# Altium footprint library MISC.PcbLib: 7 footprints
Each footprint in its own frame and in the unit in brackets; x right, y up, seen from the top. Pads: shape width x height; smd on the part's side, far side on the other; paste and mask are expansions set on the pad; w line width, h text height; cw(c..) or ccw(c..) is an arc to the next point about the centre after c.
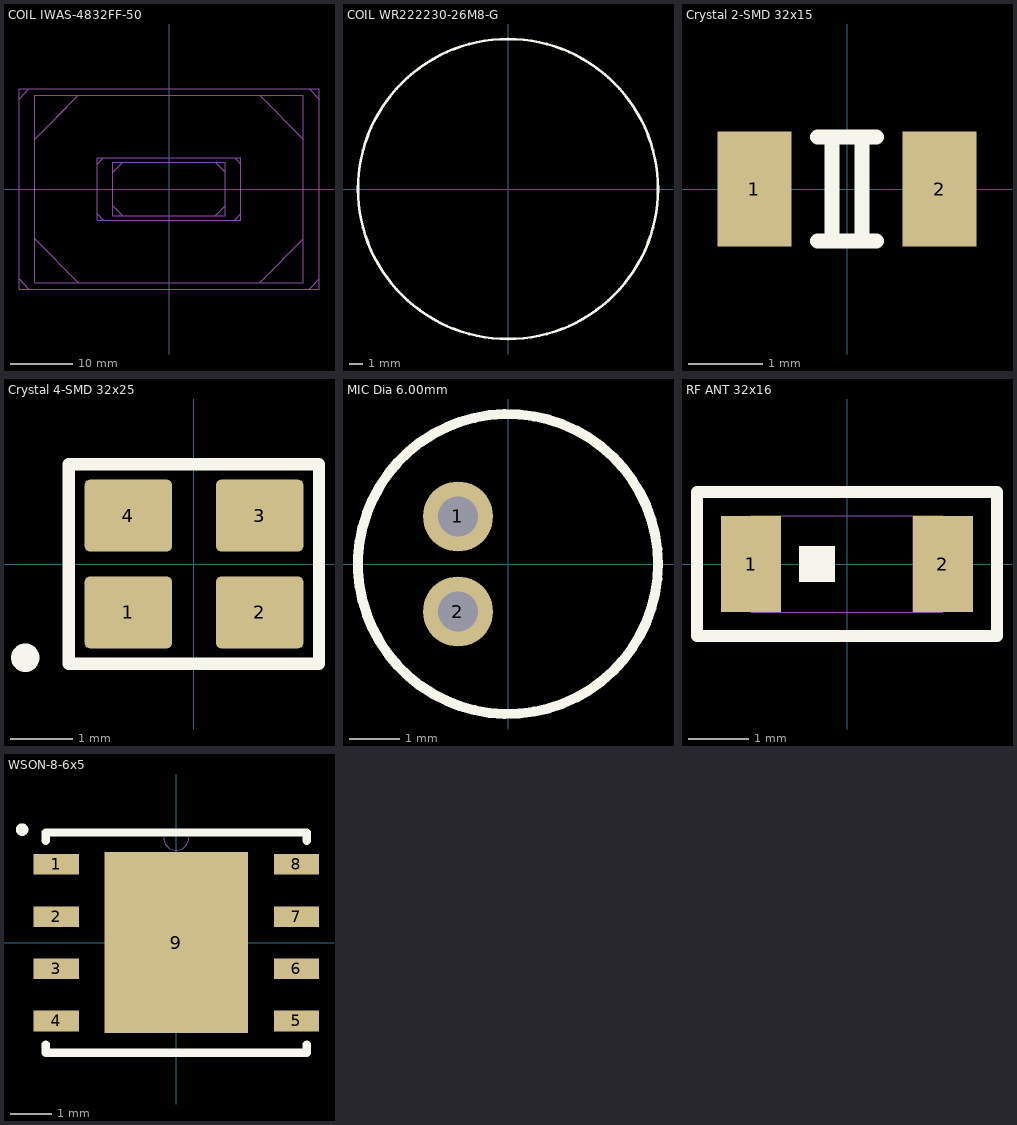
[diagram p0: the footprints below, top view; thin cyan lines are the x and y axes]

## COIL IWAS-4832FF-50 [mm]
Mechanical 1:
  lines w0.1: -24,-14.4 -22.4,-16 ; -24,14.4 -22.4,16 ; -21.5,-8 -14.5,-15 ; -21.5,8 -14.5,15 -18,11.5 ; -11.5,-4 -10.5,-5 ; -11.5,4 -10.5,5 ; -9,-2.65 -7.4,-4.25 ; -9,2.65 -7.4,4.25 ; 7.4,-4.25 9,-2.65 ; 7.4,4.25 9,2.65 ; 10.5,-5 11.5,-4 ; 10.5,5 11.5,4 ; 14.5,-15 21.5,-8 ; 14.5,15 21.5,8 ; 22.4,-16 24,-14.4 ; 22.4,16 24,14.4 ; -24,-16 24,-16 24,16 -24,16 -24,-16 ; -21.5,-15 21.5,-15 21.5,15 0,15 -21.5,15 -21.5,0 -21.5,-15 ; -11.5,-5 11.5,-5 11.5,5 0,5 -11.5,5 -11.5,0 -11.5,-5 ; -9,-4.25 9,-4.25 9,4.25 -9,4.25 -9,-4.25
3D body: height 1, standoff 0, extent -24,-16 24,0
3D body: height 1, standoff 0, extent -24,0 24,16
3D body: height 1.37, standoff 1, extent -21.5,0 21.5,15
3D body: height 1.37, standoff 1, extent -21.5,-15 21.5,0

## COIL WR222230-26M8-G [mm]
Top Overlay:
  circle w0.2: c0,0 r11
3D body: height 0.37, standoff 0, extent -11,-11 11,11
3D body: height 0.83, standoff 0.37, extent -8.75,0 8.75,8.75
3D body: height 0.83, standoff 0.37, extent -8.75,-8.75 8.75,0

## Crystal 2-SMD 32x15 [mm] "Crystal 3.2mm x 1.5mm SMD"
pads (2):
  rect 1x1.55 smd: 1(-1.25,0) 2(1.25,0)
Top Overlay:
  lines w0.203: -0.4,-0.7 0.4,-0.7 ; -0.4,0.7 0.4,0.7 ; -0.2,-0.7 -0.2,0.7 ; 0.2,-0.7 0.2,0.7
3D body "User Library-Siward_SX3215.step": height 0.81, standoff 0, extent -1.6,-0.75 1.6,0.75

## Crystal 4-SMD 32x25 [mm]
pads (4):
  rrect15% 1.4x1.15 smd: 1(-1.05,-0.775) 2(1.05,-0.775) 3(1.05,0.775) 4(-1.05,0.775)
Top Overlay:
  circle w0.254: c-2.7,-1.5 r0.1
  lines w0.2: -2,-1.6 -2,1.6 2,1.6 2,-1.6 -2,-1.6
3D body "User Library-User Library-Siward_SX3225.step": height 0.81, standoff 0, extent -1.6,-1.25 1.6,1.25

## MIC Dia 6.00mm [mm]
pads (2):
  round 1.4 hole 0.8: 1(-1,0.95) 2(-1,-0.95)
Top Overlay:
  circle w0.2: c0,0 r3
3D body "cmc-2242pbl-a.stp": height 2.4, standoff -2.8, extent -3,-3 3,3

## RF ANT 32x16 [mm]
pads (2):
  rect 1x1.6 smd: 1(-1.6,0) 2(1.6,0)
Top Overlay:
  rectangle: -0.8,-0.3 -0.2,0.3
  lines w0.2: -2.5,-1.2 -2.5,1.2 2.5,1.2 2.5,-1.2 -2.5,-1.2
Mechanical 1:
  lines w0.02: -1.1,-0.8 -1.1,0.8 ; 1.1,-0.8 1.1,0.8 ; -1.6,-0.8 1.6,-0.8 1.6,0.8 -1.6,0.8 -1.6,-0.8
3D body: height 1.2, standoff 0, extent -1.1,-0.8 1.1,0.8
3D body: height 1.2, standoff 0, extent 1.1,-0.8 1.6,0.8
3D body: height 1.2, standoff 0, extent -1.6,-0.8 -1.1,0.8
3D body: height 1.21, standoff 1.2, extent -0.8,-0.2 -0.4,0.2

## WSON-8-6x5 [mm]
pads (9):
  rect 1.1x0.5 smd: 1(-2.921,1.905) 2(-2.921,0.635) 3(-2.921,-0.635) 4(-2.921,-1.905) 5(2.921,-1.905) 6(2.921,-0.635) 7(2.921,0.635) 8(2.921,1.905)
  rect 3.5x4.4 smd paste-2.159: 9(0,0)
Top Overlay:
  circle w0.152: c-3.75,2.75 r0.076
  lines w0.2: -3.175,-2.479 -3.175,-2.68 3.175,-2.68 3.175,-2.479 ; -3.175,2.479 -3.175,2.68 3.175,2.68 3.175,2.479
Top Paste:
  region: -0.1,2.072 -1.627,2.072 -1.627,0.824 -0.1,0.824
  region: -0.1,0.624 -1.627,0.624 -1.627,-0.624 -0.1,-0.624
  region: -0.1,-0.824 -1.627,-0.824 -1.627,-2.072 -0.1,-2.072
  region: 1.627,2.072 0.1,2.072 0.1,0.824 1.627,0.824
  region: 1.627,0.624 0.1,0.624 0.1,-0.624 1.627,-0.624
  region: 1.627,-0.824 0.1,-0.824 0.1,-2.072 1.627,-2.072
Mechanical 13:
  lines w0: -0.305,2.553 ccw(c0,2.553) 0.305,2.553
3D body "WIN_ZP-8.stp": height 0.79, standoff 0, extent -3.099,-2.552 3.099,2.553